# Altium schematic symbol library B25654A9756K001.SchLib: 1 symbol
Pins are listed as number, name and electrical type; pins without a type are passive.

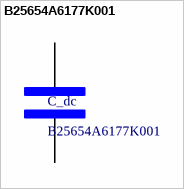
[diagram p0: symbol B25654A6177K001]

## B25654A6177K001
designator C_dc
footprint B25654A6177K001
pins: 1, 2